# EAGLE library part DD-12864WE-4A (library BlueBoard)
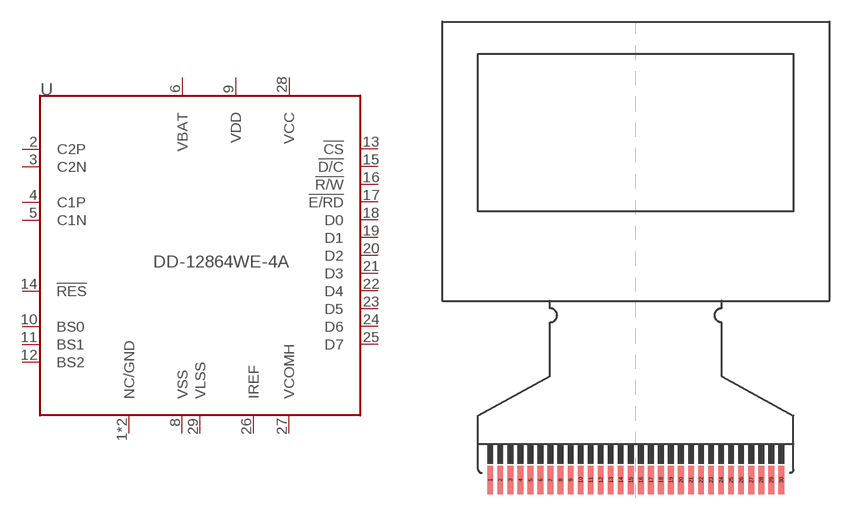
[diagram p25: symbol with the pads of DD-12864WE-4A; footprint DD-12864WE-4A]

Designator prefix -

## DD-12864WE-4A  [DD-12864WE-4A]
1  NC/GND
2  C2P
3  C2N
4  C1P
5  C1N
6  VBAT
8  VSS
9  VDD
10  BS0
11  BS1
12  BS2
13  !CS!
14  !RES!
15  !D/C!
16  !R/W!
17  !E/RD!
18  D0
19  D1
20  D2
21  D3
22  D4
23  D5
24  D6
25  D7
26  IREF
27  VCOMH
28  VCC
29  VLSS
30  NC/GND

## Footprint DD-12864WE-4A (pad centres in mm)
smd 0.4 x 2: 1 -10.15,-0.5; 2 -9.45,-0.5; 3 -8.75,-0.5; 4 -8.05,-0.5; 5 -7.35,-0.5; 6 -6.65,-0.5; 7 -5.95,-0.5; 8 -5.25,-0.5; 9 -4.55,-0.5; 10 -3.85,-0.5; 11 -3.15,-0.5; 12 -2.45,-0.5; 13 -1.75,-0.5; 14 -1.05,-0.5; 15 -0.35,-0.5; 16 0.35,-0.5; 17 1.05,-0.5; 18 1.75,-0.5; 19 2.45,-0.5; 20 3.15,-0.5; 21 3.85,-0.5; 22 4.55,-0.5; 23 5.25,-0.5; 24 5.95,-0.5; 25 6.65,-0.5; 26 7.35,-0.5; 27 8.05,-0.5; 28 8.75,-0.5; 29 9.45,-0.5; 30 10.15,-0.5